# EAGLE library part HCPL-4200-300E (library IC)
OPTOISO 3.75KV RECEIVER 8DIP GW Manufacturer's datasheet <https://docs.broadcom.com/docs/AV02-2353EN>
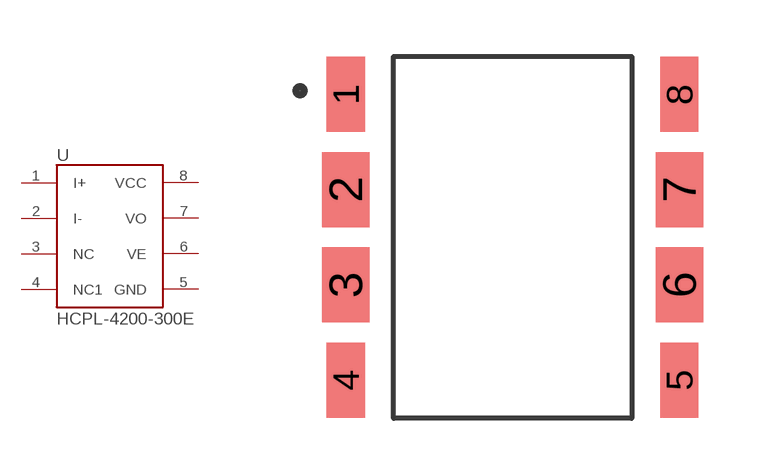
[diagram p17: symbol with the pads of HCPL-4200-300E; footprint HCPL-4200-300E]

Designator prefix U

## HCPL-4200-300E (CREATED_BY: PCBLayout.com; DIGIKEY_PARTNO: 516-2386-5-ND; MANUFACTURER: Broadcom Limited; MPN: HCPL-4200-300E; PACKAGE: DIP-08)  [HCPL-4200-300E]
1  I+  in
2  I-  in
3  NC  nc
4  NC1  nc
5  GND  pwr
6  VE  out
7  VO  out
8  VCC  pwr

## Footprint HCPL-4200-300E (pad centres in mm)
smd 1.016 x 2: 1 -4.45,3.81; 4 -4.45,-3.81; 5 4.45,-3.81; 8 4.45,3.81
smd 1.27 x 2: 2 -4.45,1.27; 3 -4.45,-1.27; 6 4.45,-1.27; 7 4.45,1.27